# Altium schematic symbol library Schlibv2.SchLib: 80 symbols
Pins are listed as number, name and electrical type; pins without a type are passive.

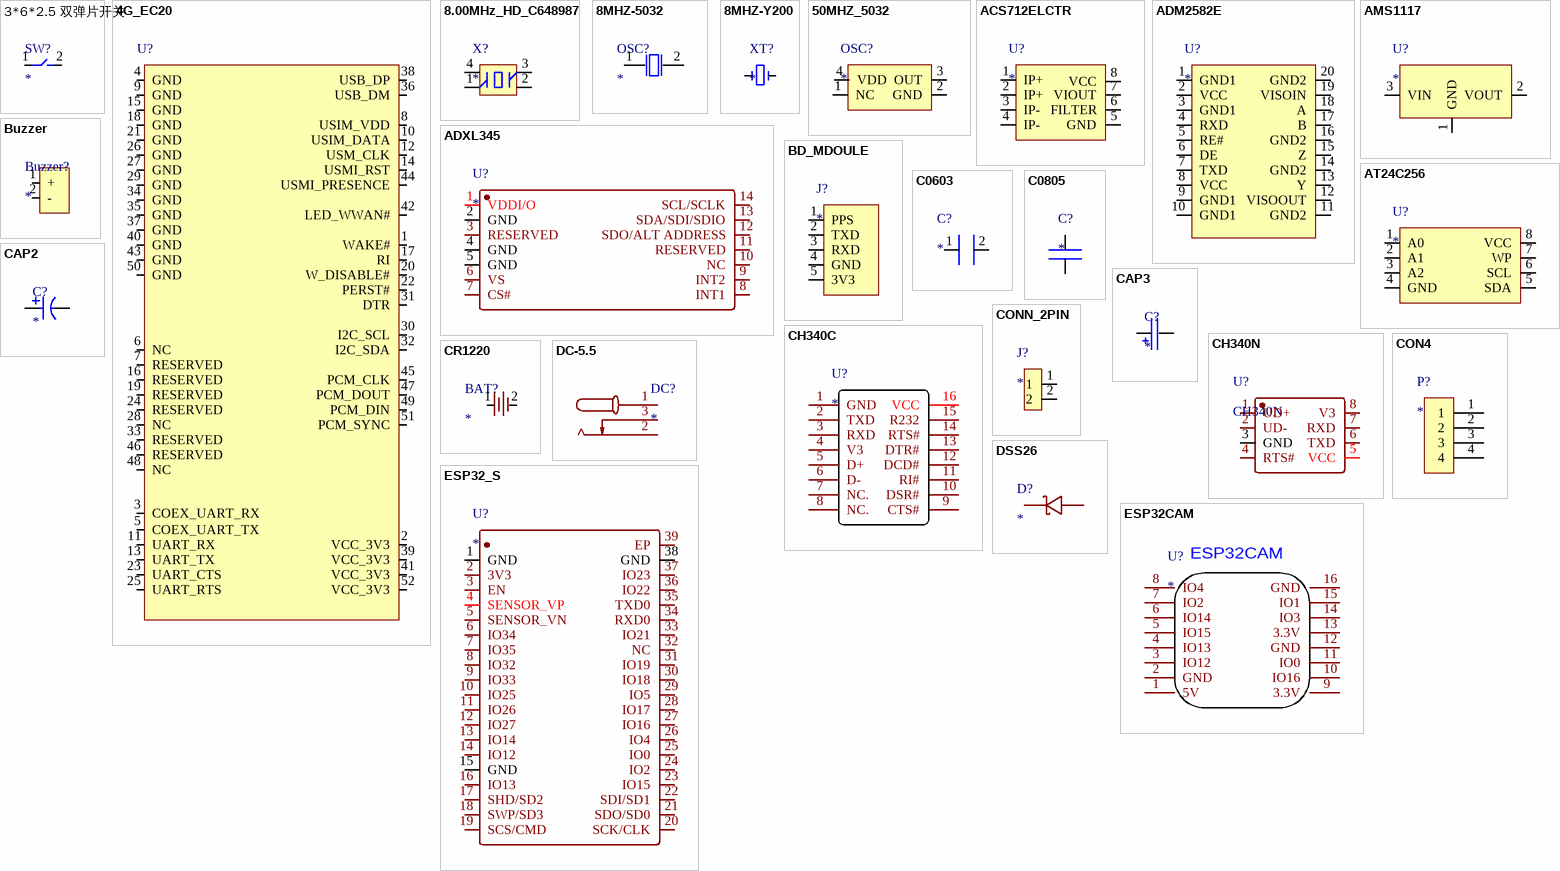
[diagram p0: symbols 3*6*2.5 双弹片开关 to ESP32CAM]

## 3*6*2.5 双弹片开关
designator SW?
pins: 1, 2

## 4G_EC20
designator U?  (value not drawn)
EC20 R2.1 Mini PCIe
pins: 1 WAKE#, 2 VCC_3V3, 3 COEX_UART_RX, 4 GND, 5 COEX_UART_TX, 6 NC, 7 RESERVED, 8 USIM_VDD, 9 GND, 10 USIM_DATA, 11 UART_RX, 12 USM_CLK, 13 UART_TX, 14 USMI_RST, 15 GND, 16 RESERVED, 17 RI, 18 GND, 19 RESERVED, 20 W_DISABLE#, 21 GND, 22 PERST#, 23 UART_CTS, 24 RESERVED, 25 UART_RTS, 26 GND, 27 GND, 28 NC, 29 GND, 30 I2C_SCL, 31 DTR, 32 I2C_SDA, 33 RESERVED, 34 GND, 35 GND, 36 USB_DM, 37 GND, 38 USB_DP, 39 VCC_3V3, 40 GND, 41 VCC_3V3, 42 LED_WWAN#, 43 GND, 44 USMI_PRESENCE, 45 PCM_CLK, 46 RESERVED, 47 PCM_DOUT, 48 NC, 49 PCM_DIN, 50 GND, 51 PCM_SYNC, 52 VCC_3V3

## 8.00MHz_HD_C648987
designator X?
https://item.szlcsc.com/684448.html
pins: 1, 2, 3, 4

## 8MHZ-5032
designator OSC?
pins: 1 OSC1, 2 OSC2

## 8MHZ-Y200
designator XT?
pins: 1, 2

## 50MHZ_5032
designator OSC?
pins: 1 NC, 2 GND, 3 OUT, 4 VDD

## ACS712ELCTR
designator U?
电流传感器
pins: 1 IP+, 2 IP+, 3 IP-, 4 IP-, 5 GND, 6 FILTER, 7 VIOUT, 8 VCC

## ADM2582E
designator U?
pins: 1 GND1, 2 VCC, 3 GND1, 4 RXD, 5 RE#, 6 DE, 7 TXD, 8 VCC, 9 GND1, 10 GND1, 11 GND2, 12 VISOOUT, 13 Y, 14 GND2, 15 Z, 16 GND2, 17 B, 18 A, 19 VISOIN, 20 GND2

## ADXL345
designator U?
pins: 1 VDDI/O, 2 GND, 3 RESERVED, 4 GND, 5 GND, 6 VS, 7 CS#, 8 INT1, 9 INT2, 10 NC, 11 RESERVED, 12 SDO/ALT ADDRESS, 13 SDA/SDI/SDIO, 14 SCL/SCLK

## AMS1117
designator U?
pins: 1 GND, 2 VOUT, 3 VIN

## AT24C256
designator U?
footprint SOIC8
pins: 1 A0, 2 A1, 3 A2, 4 GND, 5 SDA, 6 SCL, 7 WP, 8 VCC

## BD_MDOULE
designator J?
pins: 1 PPS, 2 TXD, 3 RXD, 4 GND, 5 3V3

## Buzzer
designator Buzzer?
pins: 1 +, 2 -

## C0603
designator C?
pins: 1, 2

## C0805
designator C?
pins: 1, 2

## CAP2
designator C?
电解电容
pins: 1, 2

## CAP3
designator C?
钽电容
pins: 1, 2

## CH340C
designator U?
SOP-16L
pins: 1 GND, 2 TXD, 3 RXD, 4 V3, 5 D+, 6 D-, 7 NC., 8 NC., 9 CTS#, 10 DSR#, 11 RI#, 12 DCD#, 13 DTR#, 14 RTS#, 15 R232, 16 VCC

## CH340N
designator U?
footprint CH340N
pins: 1 UD+, 2 UD-, 3 GND, 4 RTS#, 5 VCC, 6 TXD, 7 RXD, 8 V3

## CON4
designator P?
pins: 1, 2, 3, 4

## CONN_2PIN
designator J?
锂电池
pins: 1, 2

## CR1220
designator BAT?
pins: 1, 2

## DC-5.5
designator DC?
pins: 1, 2, 3

## DSS26
designator D?
C511867
pins: 1, 2

## ESP32_S
designator U?
ATHINKER
pins: 1 GND, 2 3V3, 3 EN, 4 SENSOR_VP, 5 SENSOR_VN, 6 IO34, 7 IO35, 8 IO32, 9 IO33, 10 IO25, 11 IO26, 12 IO27, 13 IO14, 14 IO12, 15 GND, 16 IO13, 17 SHD/SD2, 18 SWP/SD3, 19 SCS/CMD, 20 SCK/CLK, 21 SDO/SD0, 22 SDI/SD1, 23 IO15, 24 IO2, 25 IO0, 26 IO4, 27 IO16, 28 IO17, 29 IO5, 30 IO18, 31 IO19, 32 NC, 33 IO21, 34 RXD0, 35 TXD0, 36 IO22, 37 IO23, 38 GND, 39 EP

## ESP32CAM
designator U?
pins: 1 5V, 2 GND, 3 IO12, 4 IO13, 5 IO15, 6 IO14, 7 IO2, 8 IO4, 9 3.3V, 10 IO16, 11 IO0, 12 GND, 13 3.3V, 14 IO3, 15 IO1, 16 GND

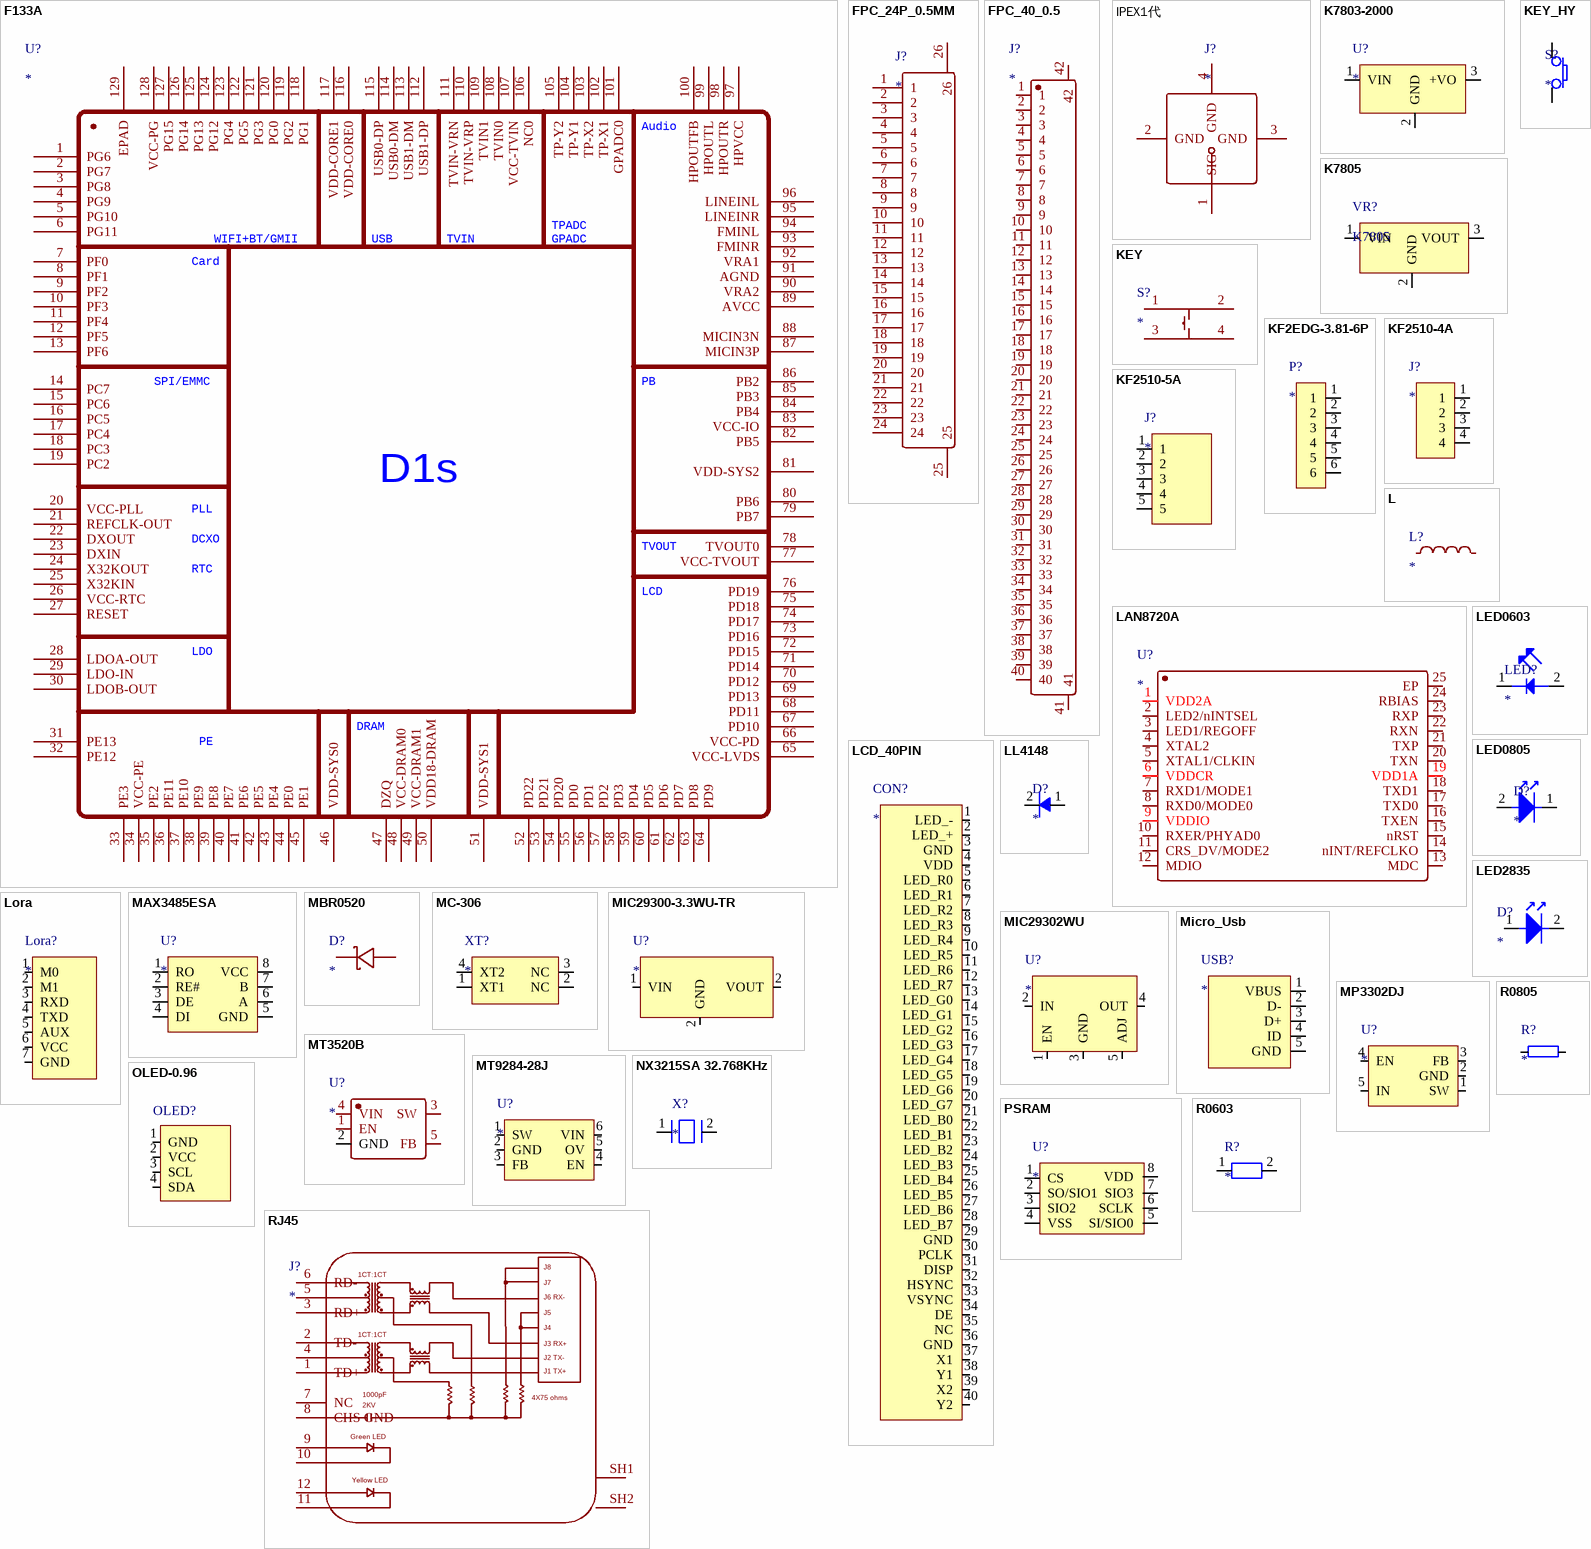
[diagram p1: symbols F133A to RJ45]

## F133A
designator U?
pins: 1 PG6, 2 PG7, 3 PG8, 4 PG9, 5 PG10, 6 PG11, 7 PF0, 8 PF1, 9 PF2, 10 PF3, 11 PF4, 12 PF5, 13 PF6, 14 PC7, 15 PC6, 16 PC5, 17 PC4, 18 PC3, 19 PC2, 20 VCC-PLL, 21 REFCLK-OUT, 22 DXOUT, 23 DXIN, 24 X32KOUT, 25 X32KIN, 26 VCC-RTC, 27 RESET, 28 LDOA-OUT, 29 LDO-IN, 30 LDOB-OUT, 31 PE13, 32 PE12, 33 PE3, 34 VCC-PE, 35 PE2, 36 PE11, 37 PE10, 38 PE9, 39 PE8, 40 PE7, 41 PE6, 42 PE5, 43 PE4, 44 PE0, 45 PE1, 46 VDD-SYS0, 47 DZQ, 48 VCC-DRAM0, 49 VCC-DRAM1, 50 VDD18-DRAM, 51 VDD-SYS1, 52 PD22, 53 PD21, 54 PD20, 55 PD0, 56 PD1, 57 PD2, 58 PD3, 59 PD4, 60 PD5, 61 PD6, 62 PD7, 63 PD8, 64 PD9, 65 VCC-LVDS, 66 VCC-PD, 67 PD10, 68 PD11, 69 PD13, 70 PD12, 71 PD14, 72 PD15, 73 PD16, 74 PD17, 75 PD18, 76 PD19, 77 VCC-TVOUT, 78 TVOUT0, 79 PB7, 80 PB6, 81 VDD-SYS2, 82 PB5, 83 VCC-IO, 84 PB4, 85 PB3, 86 PB2, 87 MICIN3P, 88 MICIN3N, 89 AVCC, 90 VRA2, 91 AGND, 92 VRA1, 93 FMINR, 94 FMINL, 95 LINEINR, 96 LINEINL, 97 HPVCC, 98 HPOUTR, 99 HPOUTL, 100 HPOUTFB, 101 GPADC0, 102 TP-X1, 103 TP-X2, 104 TP-Y1, 105 TP-Y2, 106 NC0, 107 VCC-TVIN, 108 TVIN0, 109 TVIN1, 110 TVIN-VRP, 111 TVIN-VRN, 112 USB1-DP, 113 USB1-DM, 114 USB0-DM, 115 USB0-DP, 116 VDD-CORE0, 117 VDD-CORE1, 118 PG1, 119 PG2, 120 PG0, 121 PG3, 122 PG5, 123 PG4, 124 PG12, 125 PG13, 126 PG14, 127 PG15, 128 VCC-PG, 129 EPAD
text: Audio; WIFI+BT/GMII; USB; TVIN; Card; TPADC / GPADC; SPI/EMMC; PB; D1s; PLL; DCXO; TVOUT; RTC; LCD; LDO; DRAM; PE

## FPC_24P_0.5MM
designator J?
pins: 1, 2, 3, 4, 5, 6, 7, 8, 9, 10, 11, 12, 13, 14, 15, 16, 17, 18, 19, 20, 21, 22, 23, 24, 25, 26

## FPC_40_0.5
designator J?
pins: 1, 2, 3, 4, 5, 6, 7, 8, 9, 10, 11, 12, 13, 14, 15, 16, 17, 18, 19, 20, 21, 22, 23, 24, 25, 26, 27, 28, 29, 30, 31, 32, 33, 34, 35, 36, 37, 38, 39, 40, 41, 42

## IPEX1代
designator J?
pins: 1 SIG, 2 GND, 3 GND, 4 GND

## K7803-2000
designator U?
pins: 1 VIN, 2 GND, 3 +VO

## K7805
designator VR?
pins: 1 VIN, 2 GND, 3 VOUT

## KEY
designator S?
白色方块
pins: 1, 2, 3, 4

## KEY_HY
designator S?
pins: 1, 2

## KF2EDG-3.81-6P
designator P?
6PIN端子
pins: 1, 2, 3, 4, 5, 6

## KF2510-4A
designator J?
pins: 1, 2, 3, 4

## KF2510-5A
designator J?
pins: 1, 2, 3, 4, 5

## L
designator L?
pins: 1, 2

## LAN8720A
designator U?
pins: 1 VDD2A, 2 LED2/nINTSEL, 3 LED1/REGOFF, 4 XTAL2, 5 XTAL1/CLKIN, 6 VDDCR, 7 RXD1/MODE1, 8 RXD0/MODE0, 9 VDDIO, 10 RXER/PHYAD0, 11 CRS_DV/MODE2, 12 MDIO, 13 MDC, 14 nINT/REFCLKO, 15 nRST, 16 TXEN, 17 TXD0, 18 TXD1, 19 VDD1A, 20 TXN, 21 TXP, 22 RXN, 23 RXP, 24 RBIAS, 25 EP

## LCD_40PIN
designator CON?
pins: 1 LED_-, 2 LED_+, 3 GND, 4 VDD, 5 LED_R0, 6 LED_R1, 7 LED_R2, 8 LED_R3, 9 LED_R4, 10 LED_R5, 11 LED_R6, 12 LED_R7, 13 LED_G0, 14 LED_G1, 15 LED_G2, 16 LED_G3, 17 LED_G4, 18 LED_G5, 19 LED_G6, 20 LED_G7, 21 LED_B0, 22 LED_B1, 23 LED_B2, 24 LED_B3, 25 LED_B4, 26 LED_B5, 27 LED_B6, 28 LED_B7, 29 GND, 30 PCLK, 31 DISP, 32 HSYNC, 33 VSYNC, 34 DE, 35 NC, 36 GND, 37 X1, 38 Y1, 39 X2, 40 Y2

## LED0603
designator LED?
pins: 1, 2

## LED0805
designator D?
pins: 1, 2

## LED2835
designator D?
pins: 1, 2

## LL4148
designator D?
开关二极管
pins: 1, 2

## Lora
designator Lora?
pins: 1 M0, 2 M1, 3 RXD, 4 TXD, 5 AUX, 6 VCC, 7 GND

## MAX3485ESA
designator U?
485低功耗收发器
pins: 1 RO, 2 RE#, 3 DE, 4 DI, 5 GND, 6 A, 7 B, 8 VCC

## MBR0520
designator D?
pins: 1 K, 2 A

## MC-306
designator XT?
32.768k
pins: 1 XT1, 2 NC, 3 NC, 4 XT2

## MIC29300-3.3WU-TR
designator U?
pins: 1 VIN, 2 VOUT, 2 GND

## MIC29302WU
designator U?
pins: 1 EN, 2 IN, 3 GND, 4 OUT, 5 ADJ

## Micro_Usb
designator USB?
pins: 1 VBUS, 2 D-, 3 D+, 4 ID, 5 GND

## MP3302DJ
designator U?
pins: 1 SW, 2 GND, 3 FB, 4 EN, 5 IN

## MT3520B
designator U?
pins: 1 EN, 2 GND, 3 SW, 4 VIN, 5 FB

## MT9284-28J
designator U?
pins: 1 SW, 2 GND, 3 FB, 4 EN, 5 OV, 6 VIN

## NX3215SA 32.768KHz
designator X?
pins: 1, 2

## OLED-0.96
designator OLED?
pins: 1 GND, 2 VCC, 3 SCL, 4 SDA

## PSRAM
designator U?
pins: 1 CS, 2 SO/SIO1, 3 SIO2, 4 VSS, 5 SI/SIO0, 6 SCLK, 7 SIO3, 8 VDD

## R0603
designator R?
pins: 1, 2

## R0805
designator R?
pins: 1, 2

## RJ45
designator J?
HR911105A
pins: 1 TD+, 2 TD-, 3 RD+, 4, 5, 6 RD-, 7 NC, 8 CHS GND, 9, 10, 11, 12, SH1, SH2
text: J8; 1CT:1CT; J7; J6 RX-; J5; J4; J3 RX+; J2 TX-; J1 TX+; 1000pF; 4X75 ohms; 2KV; Green LED; Yellow LED

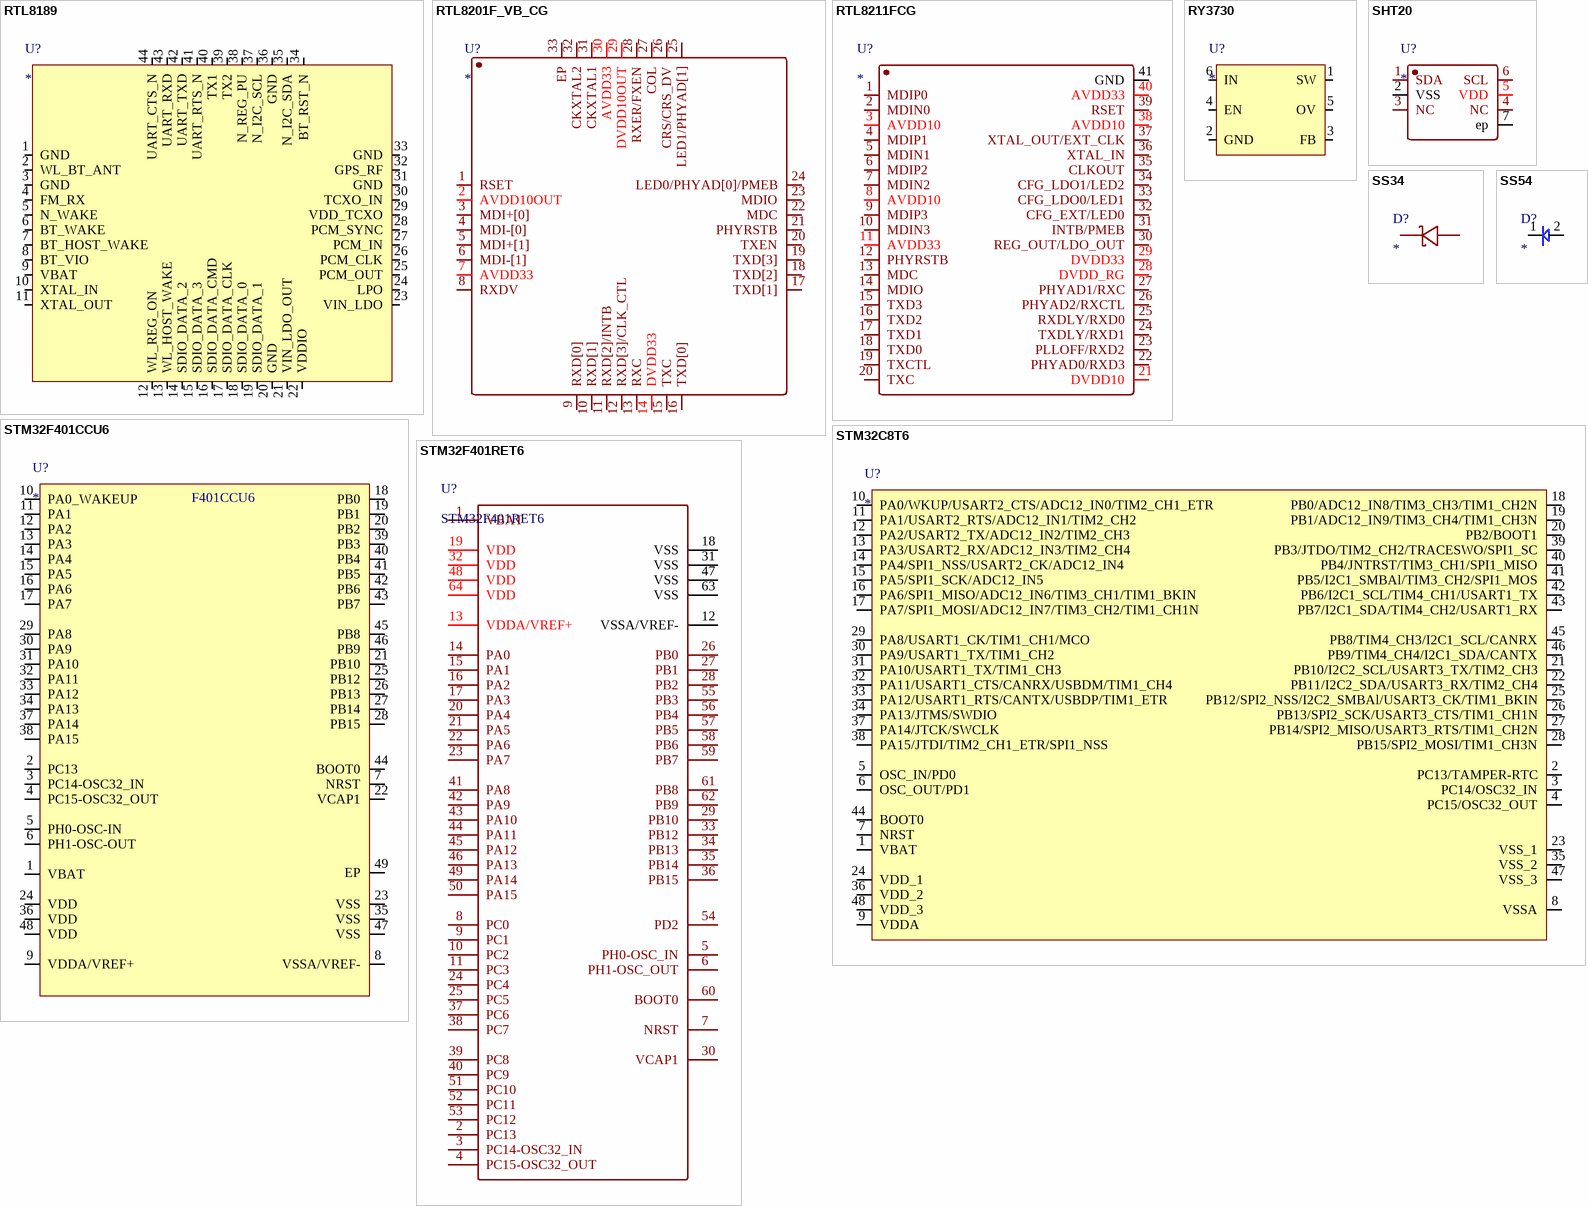
[diagram p2: symbols RTL8189 to STM32F401RET6]

## RTL8189
designator U?
创凌WIFI
pins: 1 GND, 2 WL_BT_ANT, 3 GND, 4 FM_RX, 5 N_WAKE, 6 BT_WAKE, 7 BT_HOST_WAKE, 8 BT_VIO, 9 VBAT, 10 XTAL_IN, 11 XTAL_OUT, 12 WL_REG_ON, 13 WL_HOST_WAKE, 14 SDIO_DATA_2, 15 SDIO_DATA_3, 16 SDIO_DATA_CMD, 17 SDIO_DATA_CLK, 18 SDIO_DATA_0, 19 SDIO_DATA_1, 20 GND, 21 VIN_LDO_OUT, 22 VDDIO, 23 VIN_LDO, 24 LPO, 25 PCM_OUT, 26 PCM_CLK, 27 PCM_IN, 28 PCM_SYNC, 29 VDD_TCXO, 30 TCXO_IN, 31 GND, 32 GPS_RF, 33 GND, 34 BT_RST_N, 35 N_I2C_SDA, 36 GND, 37 N_I2C_SCL, 38 N_REG_PU, 39 TX2, 40 TX1, 41 UART_RTS_N, 42 UART_TXD, 43 UART_RXD, 44 UART_CTS_N

## RTL8201F_VB_CG
designator U?
RTL8201F_VB_CG
pins: 1 RSET, 2 AVDD10OUT, 3 MDI+[0], 4 MDI-[0], 5 MDI+[1], 6 MDI-[1], 7 AVDD33, 8 RXDV, 9 RXD[0], 10 RXD[1], 11 RXD[2]/INTB, 12 RXD[3]/CLK_CTL, 13 RXC, 14 DVDD33, 15 TXC, 16 TXD[0], 17 TXD[1], 18 TXD[2], 19 TXD[3], 20 TXEN, 21 PHYRSTB, 22 MDC, 23 MDIO, 24 LED0/PHYAD[0]/PMEB, 25 LED1/PHYAD[1], 26 CRS/CRS_DV, 27 COL, 28 RXER/FXEN, 29 DVDD10OUT, 30 AVDD33, 31 CKXTAL1, 32 CKXTAL2, 33 EP

## RTL8211FCG
designator U?
pins: 1 MDIP0, 2 MDIN0, 3 AVDD10, 4 MDIP1, 5 MDIN1, 6 MDIP2, 7 MDIN2, 8 AVDD10, 9 MDIP3, 10 MDIN3, 11 AVDD33, 12 PHYRSTB, 13 MDC, 14 MDIO, 15 TXD3, 16 TXD2, 17 TXD1, 18 TXD0, 19 TXCTL, 20 TXC, 21 DVDD10, 22 PHYAD0/RXD3, 23 PLLOFF/RXD2, 24 TXDLY/RXD1, 25 RXDLY/RXD0, 26 PHYAD2/RXCTL, 27 PHYAD1/RXC, 28 DVDD_RG, 29 DVDD33, 30 REG_OUT/LDO_OUT, 31 INTB/PMEB, 32 CFG_EXT/LED0, 33 CFG_LDO0/LED1, 34 CFG_LDO1/LED2, 35 CLKOUT, 36 XTAL_IN, 37 XTAL_OUT/EXT_CLK, 38 AVDD10, 39 RSET, 40 AVDD33, 41 GND

## RY3730
designator U?
pins: 1 SW, 2 GND, 3 FB, 4 EN, 5 OV, 6 IN

## SHT20
designator U?
pins: 1 SDA, 2 VSS, 3 NC, 4 NC, 5 VDD, 6 SCL, 7 ep

## SS34
designator D?
pins: 1 C, 2 A

## SS54
designator D?
pins: 1, 2

## STM32C8T6
designator U?
pins: 1 VBAT, 2 PC13/TAMPER-RTC, 3 PC14/OSC32_IN, 4 PC15/OSC32_OUT, 5 OSC_IN/PD0, 6 OSC_OUT/PD1, 7 NRST, 8 VSSA, 9 VDDA, 10 PA0/WKUP/USART2_CTS/ADC12_IN0/TIM2_CH1_ETR, 11 PA1/USART2_RTS/ADC12_IN1/TIM2_CH2, 12 PA2/USART2_TX/ADC12_IN2/TIM2_CH3, 13 PA3/USART2_RX/ADC12_IN3/TIM2_CH4, 14 PA4/SPI1_NSS/USART2_CK/ADC12_IN4, 15 PA5/SPI1_SCK/ADC12_IN5, 16 PA6/SPI1_MISO/ADC12_IN6/TIM3_CH1/TIM1_BKIN, 17 PA7/SPI1_MOSI/ADC12_IN7/TIM3_CH2/TIM1_CH1N, 18 PB0/ADC12_IN8/TIM3_CH3/TIM1_CH2N, 19 PB1/ADC12_IN9/TIM3_CH4/TIM1_CH3N, 20 PB2/BOOT1, 21 PB10/I2C2_SCL/USART3_TX/TIM2_CH3, 22 PB11/I2C2_SDA/USART3_RX/TIM2_CH4, 23 VSS_1, 24 VDD_1, 25 PB12/SPI2_NSS/I2C2_SMBAl/USART3_CK/TIM1_BKIN, 26 PB13/SPI2_SCK/USART3_CTS/TIM1_CH1N, 27 PB14/SPI2_MISO/USART3_RTS/TIM1_CH2N, 28 PB15/SPI2_MOSI/TIM1_CH3N, 29 PA8/USART1_CK/TIM1_CH1/MCO, 30 PA9/USART1_TX/TIM1_CH2, 31 PA10/USART1_TX/TIM1_CH3, 32 PA11/USART1_CTS/CANRX/USBDM/TIM1_CH4, 33 PA12/USART1_RTS/CANTX/USBDP/TIM1_ETR, 34 PA13/JTMS/SWDIO, 35 VSS_2, 36 VDD_2, 37 PA14/JTCK/SWCLK, 38 PA15/JTDI/TIM2_CH1_ETR/SPI1_NSS, 39 PB3/JTDO/TIM2_CH2/TRACESWO/SPI1_SC, 40 PB4/JNTRST/TIM3_CH1/SPI1_MISO, 41 PB5/I2C1_SMBAl/TIM3_CH2/SPI1_MOS, 42 PB6/I2C1_SCL/TIM4_CH1/USART1_TX, 43 PB7/I2C1_SDA/TIM4_CH2/USART1_RX, 44 BOOT0, 45 PB8/TIM4_CH3/I2C1_SCL/CANRX, 46 PB9/TIM4_CH4/I2C1_SDA/CANTX, 47 VSS_3, 48 VDD_3

## STM32F401CCU6
designator U?
pins: 1 VBAT, 2 PC13, 3 PC14-OSC32_IN, 4 PC15-OSC32_OUT, 5 PH0-OSC-IN, 6 PH1-OSC-OUT, 7 NRST, 8 VSSA/VREF-, 9 VDDA/VREF+, 10 PA0_WAKEUP, 11 PA1, 12 PA2, 13 PA3, 14 PA4, 15 PA5, 16 PA6, 17 PA7, 18 PB0, 19 PB1, 20 PB2, 21 PB10, 22 VCAP1, 23 VSS, 24 VDD, 25 PB12, 26 PB13, 27 PB14, 28 PB15, 29 PA8, 30 PA9, 31 PA10, 32 PA11, 33 PA12, 34 PA13, 35 VSS, 36 VDD, 37 PA14, 38 PA15, 39 PB3, 40 PB4, 41 PB5, 42 PB6, 43 PB7, 44 BOOT0, 45 PB8, 46 PB9, 47 VSS, 48 VDD, 49 EP
text: F401CCU6

## STM32F401RET6
designator U?
footprint STM32F401RET6
pins: 1 VBAT, 2 PC13, 3 PC14-OSC32_IN, 4 PC15-OSC32_OUT, 5 PH0-OSC_IN, 6 PH1-OSC_OUT, 7 NRST, 8 PC0, 9 PC1, 10 PC2, 11 PC3, 12 VSSA/VREF-, 13 VDDA/VREF+, 14 PA0, 15 PA1, 16 PA2, 17 PA3, 18 VSS, 19 VDD, 20 PA4, 21 PA5, 22 PA6, 23 PA7, 24 PC4, 25 PC5, 26 PB0, 27 PB1, 28 PB2, 29 PB10, 30 VCAP1, 31 VSS, 32 VDD, 33 PB12, 34 PB13, 35 PB14, 36 PB15, 37 PC6, 38 PC7, 39 PC8, 40 PC9, 41 PA8, 42 PA9, 43 PA10, 44 PA11, 45 PA12, 46 PA13, 47 VSS, 48 VDD, 49 PA14, 50 PA15, 51 PC10, 52 PC11, 53 PC12, 54 PD2, 55 PB3, 56 PB4, 57 PB5, 58 PB6, 59 PB7, 60 BOOT0, 61 PB8, 62 PB9, 63 VSS, 64 VDD

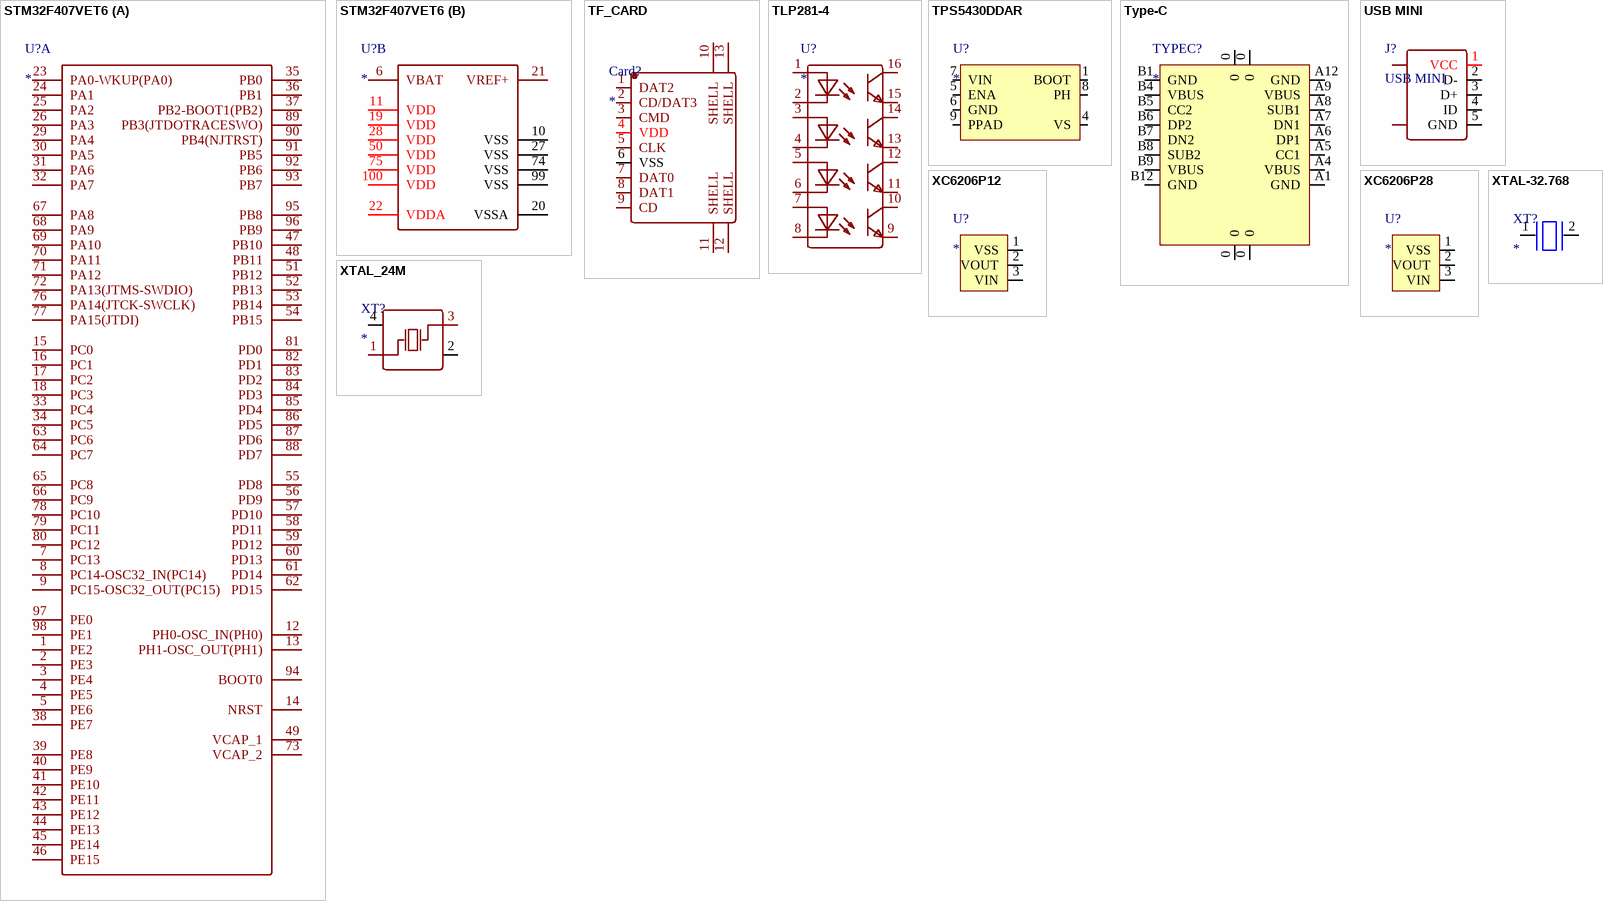
[diagram p3: symbols STM32F407VET6 to XTAL_24M]

## STM32F407VET6
designator U?
part A pins: 1 PE2, 2 PE3, 3 PE4, 4 PE5, 5 PE6, 7 PC13, 8 PC14-OSC32_IN(PC14), 9 PC15-OSC32_OUT(PC15), 12 PH0-OSC_IN(PH0), 13 PH1-OSC_OUT(PH1), 14 NRST, 15 PC0, 16 PC1, 17 PC2, 18 PC3, 23 PA0-WKUP(PA0), 24 PA1, 25 PA2, 26 PA3, 29 PA4, 30 PA5, 31 PA6, 32 PA7, 33 PC4, 34 PC5, 35 PB0, 36 PB1, 37 PB2-BOOT1(PB2), 38 PE7, 39 PE8, 40 PE9, 41 PE10, 42 PE11, 43 PE12, 44 PE13, 45 PE14, 46 PE15, 47 PB10, 48 PB11, 49 VCAP_1, 51 PB12, 52 PB13, 53 PB14, 54 PB15, 55 PD8, 56 PD9, 57 PD10, 58 PD11, 59 PD12, 60 PD13, 61 PD14, 62 PD15, 63 PC6, 64 PC7, 65 PC8, 66 PC9, 67 PA8, 68 PA9, 69 PA10, 70 PA11, 71 PA12, 72 PA13(JTMS-SWDIO), 73 VCAP_2, 76 PA14(JTCK-SWCLK), 77 PA15(JTDI), 78 PC10, 79 PC11, 80 PC12, 81 PD0, 82 PD1, 83 PD2, 84 PD3, 85 PD4, 86 PD5, 87 PD6, 88 PD7, 89 PB3(JTDOTRACESWO), 90 PB4(NJTRST), 91 PB5, 92 PB6, 93 PB7, 94 BOOT0, 95 PB8, 96 PB9, 97 PE0, 98 PE1
part B pins: 6 VBAT, 10 VSS, 11 VDD, 19 VDD, 20 VSSA, 21 VREF+, 22 VDDA, 27 VSS, 28 VDD, 50 VDD, 74 VSS, 75 VDD, 99 VSS, 100 VDD

## TF_CARD
designator Card?
pins: 1 DAT2, 2 CD/DAT3, 3 CMD, 4 VDD, 5 CLK, 6 VSS, 7 DAT0, 8 DAT1, 9 CD, 10 SHELL, 11 SHELL, 12 SHELL, 13 SHELL

## TLP281-4
designator U?
光耦 SMD16封装
pins: 1 AN, 2 CAT, 3 AN, 4 CAT, 5 AN, 6 CAT, 7 AN, 8 CAT, 9 EM, 10 COL, 11 EM, 12 COL, 13 EM, 14 COL, 15 EM, 16 COL

## TPS5430DDAR
designator U?
pins: 1 BOOT, 4 VS, 5 ENA, 6 GND, 7 VIN, 8 PH, 9 PPAD

## Type-C
designator TYPEC?
pins: 0, 0, 0, 0, A1 GND, A4 VBUS, A5 CC1, A6 DP1, A7 DN1, A8 SUB1, A9 VBUS, A12 GND, B1 GND, B4 VBUS, B5 CC2, B6 DP2, B7 DN2, B8 SUB2, B9 VBUS, B12 GND

## USB MINI
designator J?
footprint USB_MINI
pins: 0, 0, 1 VCC, 2 D-, 3 D+, 4 ID, 5 GND

## XC6206P12
designator U?
pins: 1 VSS, 2 VOUT, 3 VIN

## XC6206P28
designator U?
pins: 1 VSS, 2 VOUT, 3 VIN

## XTAL-32.768
designator XT?
晶振
pins: 1, 2

## XTAL_24M
designator XT?
pins: 1 OSC1, 2 GND, 3 OSC2, 4 GND